# Altium schematic symbol library HDMI-MIPI-Bridge.SchLib: 16 symbols
Pins are listed as number, name and electrical type; pins without a type are passive.

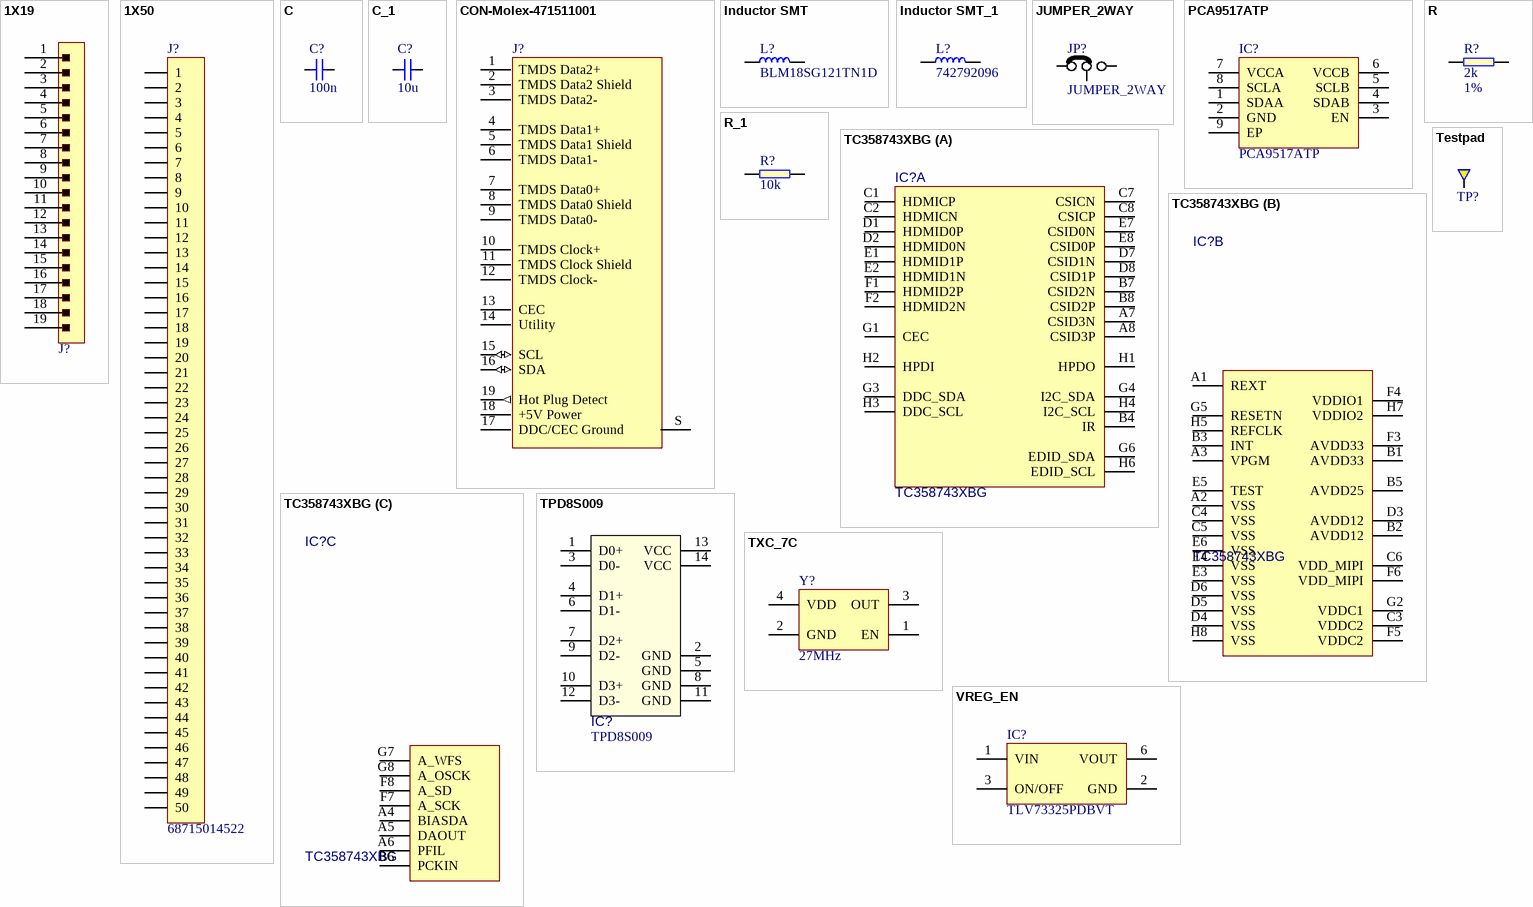
[diagram p0: symbols 1X19 to VREG_EN]

## 1X19
designator J?, comment Molex-505110-1992  (value not drawn)
FPC socket 19 pins; Part Number: CON-Molex-505110-1992; Manufacturer: Molex; Supplier Part Number 1: WM12375CT-ND; Value: Molex-505110-1992; Supplier 1: Digi-Key; Part Symbol: 505110-1992
footprint CON-Molex-505110-1992
pins: 1, 2, 3, 4, 5, 6, 7, 8, 9, 10, 11, 12, 13, 14, 15, 16, 17, 18, 19

## 1X50
designator J?, comment 68715014522
0.50mm SMT ZIF Horizontal Bottom Contact WR-FPC; Part Number: WE-687-150-145-22_FLIPPED; Manufacturer: WURTH ELEKTRONIK; Pins number: 50; Supplier Part Number 1: 1908481; Supplier 2: Digi-Key; Supplier 3: Mouser; Supplier Part Number 2: 732-3522-1-ND; Supplier Part Number 3: 710-68715014522; Value: 68715014522; Supplier 1: Farnell; Part Symbol: 68715014522
footprint 68715014522_FLIPPED (50 pins)
pins: 1, 2, 3, 4, 5, 6, 7, 8, 9, 10, 11, 12, 13, 14, 15, 16, 17, 18, 19, 20, 21, 22, 23, 24, 25, 26, 27, 28, 29, 30, 31, 32, 33, 34, 35, 36, 37, 38, 39, 40, 41, 42, 43, 44, 45, 46, 47, 48, 49, 50

## C
designator C?, comment 100n
MLCC SMT Capacitor 100nF 0402; Part Number: C_100n_0402; Manufacturer: MULTICOMP; Part Symbol: MC0402X104M100CT; Supplier 1: Farnell; Supplier Part Number 1: 2309011; Value: 100n
footprint 0402
pins: 1, 2
1 alternate drawing of the same symbol

## C_1
designator C?, comment 10u
MLCC SMT Capacitor 10uF 0603; Part Number: C_10u_0603; Manufacturer: MULTICOMP; Part Symbol: MC0603X106M6R3CT; Supplier 1: Farnell; Supplier Part Number 1: 1759393; Value: 10u
footprint 0603
pins: 1, 2
1 alternate drawing of the same symbol

## CON-Molex-471511001
designator J?
Header right angle HDMI; Part Number: CON-Molex-471511001; Manufacturer: MOLEX; Part Symbol: 47151-1001; Supplier 1: Farnell; Supplier Part Number 1: 1516661
footprint Molex_HDMI_471511001
pins: 1 TMDS Data2+, 2 TMDS Data2 Shield, 3 TMDS Data2-, 4 TMDS Data1+, 5 TMDS Data1 Shield, 6 TMDS Data1-, 7 TMDS Data0+, 8 TMDS Data0 Shield, 9 TMDS Data0-, 10 TMDS Clock+, 11 TMDS Clock Shield, 12 TMDS Clock-, 13 CEC, 14 Utility, 15 SCL (io), 16 SDA (io), 17 DDC/CEC Ground (power), 18 +5V Power (power), 19 Hot Plug Detect (out), S SH

## Inductor SMT
designator L?, comment BLM18SG121TN1D
FERRITE BEAD, 0.025OHM, 3A, 0603; Manufacturer: MURATA; Part Number: BLM18SG121TN1D; Value: BLM18SG121TN1D; Supplier 1: Farnell; Supplier Part Number 1: 1515752; Rated Current: 3A; Part Symbol: BLM18SG121TN1D
footprint 0603
pins: 1, 2

## Inductor SMT_1
designator L?, comment 742792096
FERRITE BEAD, 1kOhm 1A; Part Number: Wurth-742792096; Manufacturer: WURTH ELEKTRONIK; Value: 742792096; Supplier 1: Farnell; Supplier Part Number 1: 1635737; Rated Current: 1A; Part Symbol: 742792096
footprint 0805
pins: 1, 2

## JUMPER_2WAY
designator JP?  (no BOM)
Solder jumper; Part Number: Jumper 2 way
footprint JUMPER_2WAY
pins: 1, 2, 3

## PCA9517ATP
designator IC?
I2C BUS REPEATER W/ LEVEL TRANS, HWSON-8; Manufacturer: NXP; Part Number: PCA9517ATP; Value: PCA9517ATP; Supplier 1: Digi-Key; Supplier Part Number 1: 568-9816-1-ND; Supplier 4: Farnell; Supplier Part Number 4: 2400580; Part Symbol: PCA9517ATP
footprint PCA9517ATP
pins: 1 SDAA, 2 GND, 3 EN, 4 SDAB, 5 SCLB, 6 VCCB, 7 VCCA, 8 SCLA, 9 EP

## R
designator R?, comment Tolerance: 1%  (hidden comment: 2k)
SMT Resistor 2k 0603; Part Number: R_2k_0603; Manufacturer: MULTICOMP; Part Symbol: MCMR06X2001FTL; Value: 2k; Supplier 1: Farnell; Supplier Part Number 1: 2073418
footprint 0603
pins: 1, 2

## R_1
designator R?, comment 10k
SMT Resistor 0402; Part Number: R_10k_0402; Manufacturer: MULTICOMP; Part Symbol: MCMR04X1002FTL; Tolerance: 1%; Value: 10k; Supplier 1: Farnell; Supplier Part Number 1: 2072517
footprint 0402
pins: 1, 2

## TC358743XBG
designator IC?
Toshiba TC358743XBG HDMI-CSI bridge; Part Number: TC358743XBG; Value: TC358743XBG; Manufacturer: Toshiba; Part Symbol: TC358743XBG
footprint TC358743XBG
part A pins: A7 CSID3N, A8 CSID3P, B4 IR, B7 CSID2N, B8 CSID2P, C1 HDMICP, C2 HDMICN, C7 CSICN, C8 CSICP, D1 HDMID0P, D2 HDMID0N, D7 CSID1N, D8 CSID1P, E1 HDMID1P, E2 HDMID1N, E7 CSID0N, E8 CSID0P, F1 HDMID2P, F2 HDMID2N, G1 CEC, G3 DDC_SDA, G4 I2C_SDA, G6 EDID_SDA, H1 HPDO, H2 HPDI, H3 DDC_SCL, H4 I2C_SCL, H6 EDID_SCL
part B pins: A1 REXT, A2 VSS, A3 VPGM, B1 AVDD33, B2 AVDD12, B3 INT, B5 AVDD25, C3 VDDC2, C4 VSS, C5 VSS, C6 VDD_MIPI, D3 AVDD12, D4 VSS, D5 VSS, D6 VSS, E3 VSS, E4 VSS, E5 TEST, E6 VSS, F3 AVDD33, F4 VDDIO1, F5 VDDC2, F6 VDD_MIPI, G2 VDDC1, G5 RESETN, H5 REFCLK, H7 VDDIO2, H8 VSS
part C pins: A4 BIASDA, A5 DAOUT, A6 PFIL, B6 PCKIN, F7 A_SCK, F8 A_SD, G7 A_WFS, G8 A_OSCK

## Testpad
designator TP?  (value not drawn)  (no BOM)
Testpad, round, 1mm; Part Number: TP-R-1
footprint TP-R-1
pins: 1

## TPD8S009
designator IC?
8-Channel ESD Protection for DisplayPort and HDMI; Manufacturer: TEXAS INSTRUMENTS; Part Symbol: TPD8S009DSMR; Part Number: TPD8S009; Value: TPD8S009; Supplier 1: Farnell; Supplier Part Number 1: 1772003; Supplier 2: Mouser; Supplier Part Number 2: 595-TPD8S009DSMR; Supplier 3: Digi-Key; Supplier Part Number 3: 296-23829-1-ND
footprint SON-15
pins: 1 D0+, 2 GND, 3 D0-, 4 D1+, 5 GND, 6 D1-, 7 D2+, 8 GND, 9 D2-, 10 D3+, 11 GND, 12 D3-, 13 VCC, 14 VCC
1 alternate drawing of the same symbol

## TXC_7C
designator Y?, comment 27MHz
OSC, 27.000MHZ, 3.3V, SMD, 5.0X3.2; Part Number: 7C-27.000MBB-T; Manufacturer: TXC; Value: 27MHz; Supplier 1: Farnell; Supplier Part Number 1: 1842035; Part Symbol: 7C-27.000MBB-T
footprint TXC_7C
pins: 1 EN, 2 GND, 3 OUT, 4 VDD

## VREG_EN
designator IC?, comment TLV73325PDBVT
Linear Voltage Regulator IC Positive Fixed Output 2.5V 300mA SOT-23-5; Manufacturer: TEXAS INSTRUMENTS; Part Number: TLV73325PDBVT; Value: TLV73325PDBVT; Supplier 1: Farnell; Supplier Part Number 1: 2455143; Supplier 2: Digi-Key; Supplier Part Number 2: 296-38491-1-ND; Part Symbol: TLV73325PDBVT
footprint SOT23-5N
pins: 1 VIN, 2 GND, 3 ON/OFF, 6 VOUT